# EAGLE library part TPS22929D_DBV_6 (library TPS22929D_DBV_6)
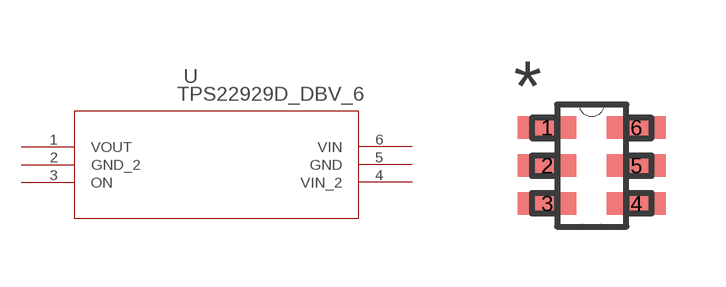
[diagram p0: symbol with the pads of DBV6; footprint DBV6]

Designator prefix U

## TPS22929D_DBV_6 (DATASHEETURL: http://www.ti.com/lit/gpn/TPS22929D; DESCRIPTION: Low Input Voltage, 1.8A Single Channel Load Switch with Controlled Turn-On; FAMILY_NAME: NON CURRENT LIMITED LOAD SWITCH; GENERIC_PART_NUMBER: TPS22929D; INDUSTRY_STD_PKG_TYPE: SOT-23; MANUFACTURER: Texas Instruments; MANUFACTURER_PART_NUMBER: tps22929d_dbv_6; PACKAGE_DESIGNATOR: DBV; PIN_COUNT: 6; VENDOR: Texas Instruments)  [DBV6]
1  VOUT  out
2  GND_2  pwr
3  ON  in
4  VIN_2  in
5  GND  pwr
6  VIN  in

## Footprint DBV6 (pad centres in mm)
smd 1.473 x 0.559: 1 -1.118,0.95; 2 -1.118,0; 3 -1.118,-0.95; 4 1.118,-0.95; 5 1.118,0; 6 1.118,0.95